# Altium footprint library Capacitor.PcbLib: 107 footprints (part 3 of 7)
Each footprint in its own frame and in the unit in brackets; x right, y up, seen from the top. Pads: shape width x height; smd on the part's side, far side on the other; paste and mask are expansions set on the pad; w line width, h text height; cw(c..) or ccw(c..) is an arc to the next point about the centre after c.
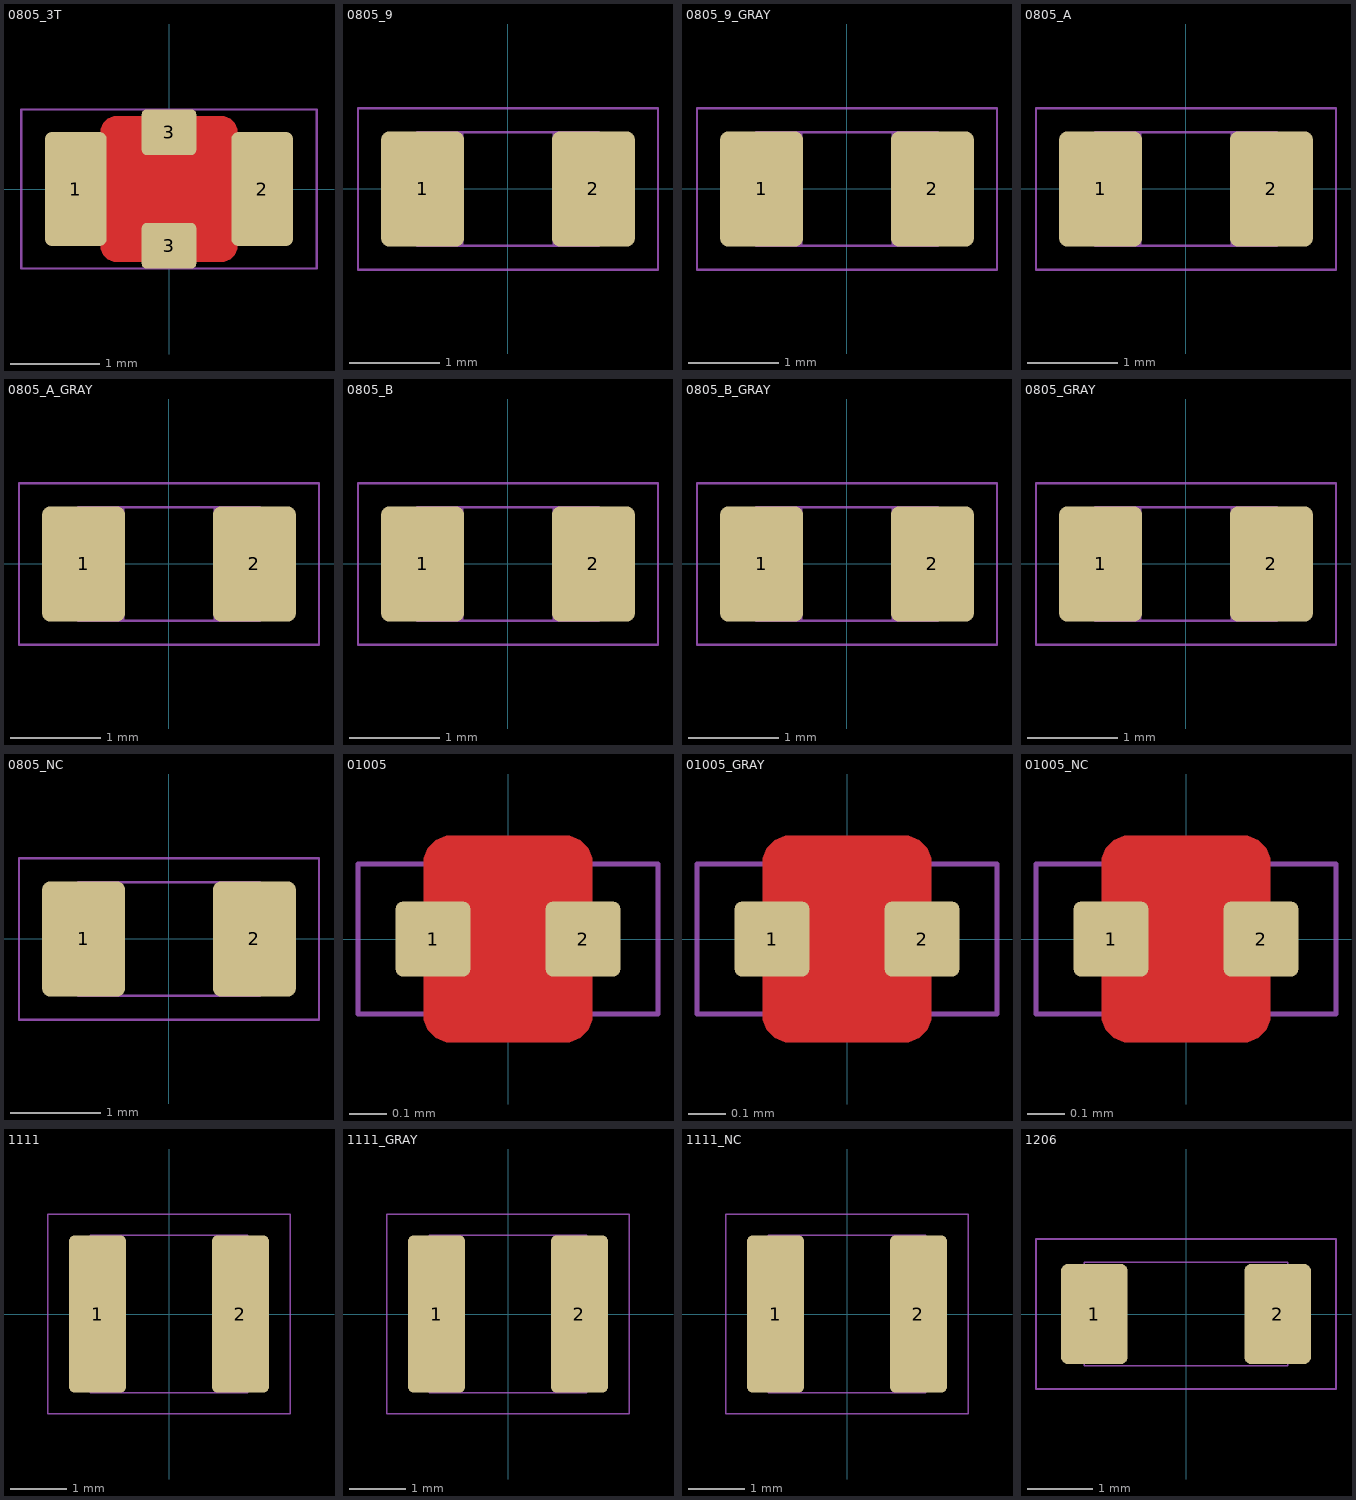
[diagram p2: the footprints below, top view; thin cyan lines are the x and y axes]

## 0805_3T [mil]
pads (4):
  rrect20% 27x50 smd paste-3 mask+2: 1(-41,0) 2(41,0)
  rrect20% 24x20 smd mask+2: 3(0,-25) 3(0,25)
Top Layer:
  pour cut-out: -23,32 -24.39,32 -26.97,30.93 -28.93,28.97 -30,26.39 -30,25 -30,-25 -30,-26.39 -28.93,-28.97 -26.97,-30.93 -24.39,-32 -23,-32 23,-32 24.39,-32 26.97,-30.93 28.93,-28.97 30,-26.39 30,-25 30,25 30,26.39 28.93,28.97 26.97,30.93 24.39,32 23,32
Top Component Outline:
  lines w1: -65,-35 -65,35 65,35 65,-35 -65,-35
Top 3D Body (Mech16):
  lines w1: -27.56,-24.61 -27.56,24.6 ; -12,24.61 ccw(c-1.39,24.61) -1.39,14 1.39,14 ccw(c1.39,24.61) 12,24.61 ; 27.56,-24.6 27.56,24.61 ; -39.37,-24.6 -39.37,24.61 39.37,24.61 39.37,-24.6 -39.37,-24.6
3D body: height 23.62, standoff 0, extent -39.37,-24.61 -27.56,24.6
3D body: height 23, standoff 1, extent -39,-24 39,24
3D body: height 23.62, standoff 0, extent 27.56,-24.6 39.37,24.61
3D body: height 23.62, standoff 0, extent -12,14 12,24.61
3D body: height 23.62, standoff 0, extent -12,-24.61 12,-14

## 0805_9 [mil]
height 33.46
pads (2):
  rrect20% 36x50 smd paste-3 mask+2: 1(-37,0) 2(37,0)
Top Component Outline:
  lines w1: -65,-35 -65,35 65,35 65,-35 -65,-35
Top 3D Body (Mech16):
  lines w1: -19.68,-24.61 -19.68,24.61 ; 19.68,-24.61 19.68,24.61 ; -39.37,-24.61 -39.37,24.61 39.37,24.61 39.37,-24.61 -39.37,-24.61
3D body: height 33.46, standoff 0, extent -39.37,-24.61 -19.68,24.61
3D body: height 33, standoff 1, extent -39,-24 39,24
3D body: height 33.46, standoff 0, extent 19.68,-24.61 39.37,24.61

## 0805_9_GRAY [mil]
height 33.46
pads (2):
  rrect20% 36x50 smd paste-3 mask+2: 1(-37,0) 2(37,0)
Top Component Outline:
  lines w1: -65,-35 65,-35 65,35 -65,35 -65,-35
Top 3D Body (Mech16):
  lines w1: -19.68,-24.61 -19.68,24.61 ; 19.68,-24.61 19.68,24.61 ; -39.37,-24.61 39.37,-24.61 39.37,24.61 -39.37,24.61 -39.37,-24.61
3D body: height 33.46, standoff 0, extent 19.68,-24.61 39.37,24.61
3D body: height 33, standoff 1, extent -39,-24 39,24
3D body: height 33.46, standoff 0, extent -39.37,-24.61 -19.68,24.61

## 0805_A [mil]
height 39.37
pads (2):
  rrect20% 36x50 smd paste-3 mask+2: 1(-37,0) 2(37,0)
Top Component Outline:
  lines w1: -65,-35 -65,35 65,35 65,-35 -65,-35
Top 3D Body (Mech16):
  lines w1: -19.68,-24.61 -19.68,24.61 ; 19.68,-24.61 19.68,24.61 ; -39.37,-24.61 -39.37,24.61 39.37,24.61 39.37,-24.61 -39.37,-24.61
3D body: height 39.37, standoff 0, extent -39.37,-24.61 -19.68,24.61
3D body: height 39, standoff 1, extent -39,-24 39,24
3D body: height 39.37, standoff 0, extent 19.68,-24.61 39.37,24.61

## 0805_A_GRAY [mil]
height 39.37
pads (2):
  rrect20% 36x50 smd paste-3 mask+2: 1(-37,0) 2(37,0)
Top Component Outline:
  lines w1: -65,-35 -65,35 65,35 65,-35 -65,-35
Top 3D Body (Mech16):
  lines w1: -19.68,-24.61 -19.68,24.61 ; 19.68,-24.61 19.68,24.61 ; -39.37,-24.61 -39.37,24.61 39.37,24.61 39.37,-24.61 -39.37,-24.61
3D body: height 39.37, standoff 0, extent -39.37,-24.61 -19.68,24.61
3D body: height 39, standoff 1, extent -39,-24 39,24
3D body: height 39.37, standoff 0, extent 19.68,-24.61 39.37,24.61

## 0805_B [mil]
height 49.21
pads (2):
  rrect20% 36x50 smd paste-3 mask+2: 1(-37,0) 2(37,0)
Top Component Outline:
  lines w1: -65,-35 -65,35 65,35 65,-35 -65,-35
Top 3D Body (Mech16):
  lines w1: -19.68,-24.61 -19.68,24.61 ; 19.68,-24.61 19.68,24.61 ; -39.37,-24.61 -39.37,24.61 39.37,24.61 39.37,-24.61 -39.37,-24.61
3D body: height 49.5, standoff 0, extent -39.37,-24.61 -19.68,24.61
3D body: height 49, standoff 1, extent -39,-24 39,24
3D body: height 49.5, standoff 0, extent 19.68,-24.61 39.37,24.61

## 0805_B_GRAY [mil]
height 49.21
pads (2):
  rrect20% 36x50 smd paste-3 mask+2: 1(-37,0) 2(37,0)
Top Component Outline:
  lines w1: -65,-35 -65,35 65,35 65,-35 -65,-35
Top 3D Body (Mech16):
  lines w1: -19.68,-24.61 -19.68,24.61 ; 19.68,-24.61 19.68,24.61 ; -39.37,-24.61 -39.37,24.61 39.37,24.61 39.37,-24.61 -39.37,-24.61
3D body: height 49.5, standoff 0, extent -39.37,-24.61 -19.68,24.61
3D body: height 49, standoff 1, extent -39,-24 39,24
3D body: height 49.5, standoff 0, extent 19.68,-24.61 39.37,24.61

## 0805_GRAY [mil]
height 23.62
pads (2):
  rrect20% 36x50 smd paste-3 mask+2: 1(-37,0) 2(37,0)
Top Component Outline:
  lines w1: -65,-35 65,-35 65,35 -65,35 -65,-35
Top 3D Body (Mech16):
  lines w1: -19.68,-24.61 -19.68,24.61 ; 19.68,-24.61 19.68,24.61 ; -39.37,-24.61 39.37,-24.61 39.37,24.61 -39.37,24.61 -39.37,-24.61
3D body: height 23.62, standoff 0, extent 19.68,-24.61 39.37,24.61
3D body: height 23, standoff 1, extent -39,-24 39,24
3D body: height 23.62, standoff 0, extent -39.37,-24.61 -19.68,24.61

## 0805_NC [mil]
height 49.21
pads (2):
  rrect20% 36x50 smd paste-3 mask+2: 1(-37,0) 2(37,0)
Top Component Outline:
  lines w1: -65,-35 -65,35 65,35 65,-35 -65,-35
Top 3D Body (Mech16):
  lines w1: -39.37,-24.61 -39.37,24.61 39.37,24.61 39.37,-24.61 -39.37,-24.61
3D body: height 1, standoff 0, extent -39.37,-24.61 39.37,24.61

## 01005 [mil]
height 8
pads (2):
  rrect20% 8x8 smd mask+0.5: 1(-8,0) 2(8,0)
Top Layer:
  pour cut-out: -6,11 -6.6,11 -7.7,10.54 -8.54,9.7 -9,8.6 -9,8 -9,-8 -9,-8.59 -8.54,-9.7 -7.7,-10.54 -6.6,-11 -6,-11 6,-11 6.6,-11 7.7,-10.54 8.54,-9.7 9,-8.59 9,-8 9,8 9,8.6 8.54,9.7 7.7,10.54 6.6,11 6,11
Top Solder:
  rectangle: -6,-8 6,8
Top Component Outline:
  lines w0.5: -16,-8 -16,8 16,8 16,-8 -16,-8
Top 3D Body (Mech16):
  lines w0.3: -8,-4 -8,4 ; -7.8,-3.8 7.8,-3.8 ; -7.8,3.8 7.8,3.8 ; -4.06,-4 -4.06,4 ; 4.06,-4 4.06,4 ; 8,-4 8,4
3D body: height 8, standoff -0.5, extent -8,-4 -4.06,4
3D body: height 7.87, standoff -0.2, extent -7.8,-3.8 7.8,3.8
3D body: height 8, standoff -0.5, extent 4.06,-4 8,4

## 01005_GRAY [mil]
height 8
pads (2):
  rrect20% 8x8 smd mask+0.5: 1(-8,0) 2(8,0)
Top Layer:
  pour cut-out: -6,11 -6.6,11 -7.7,10.54 -8.54,9.7 -9,8.6 -9,8 -9,-8 -9,-8.59 -8.54,-9.7 -7.7,-10.54 -6.6,-11 -6,-11 6,-11 6.6,-11 7.7,-10.54 8.54,-9.7 9,-8.59 9,-8 9,8 9,8.6 8.54,9.7 7.7,10.54 6.6,11 6,11
Top Solder:
  rectangle: -6,-8 6,8
Top Component Outline:
  lines w0.5: -16,-8 -16,8 16,8 16,-8 -16,-8
Top 3D Body (Mech16):
  lines w0.3: -8,-4 -8,4 ; -7.8,-3.8 7.8,-3.8 ; -7.8,3.8 7.8,3.8 ; -4.06,-4 -4.06,4 ; 4.06,-4 4.06,4 ; 8,-4 8,4
3D body: height 8, standoff -0.5, extent -8,-4 -4.06,4
3D body: height 7.87, standoff -0.2, extent -7.8,-3.8 7.8,3.8
3D body: height 8, standoff -0.5, extent 4.06,-4 8,4

## 01005_NC [mil]
height 8
pads (2):
  rrect20% 8x8 smd mask+0.8: 1(-8,0) 2(8,0)
Top Layer:
  pour cut-out: -6,11 -6.6,11 -7.7,10.54 -8.54,9.7 -9,8.6 -9,8 -9,-8 -9,-8.59 -8.54,-9.7 -7.7,-10.54 -6.6,-11 -6,-11 6,-11 6.6,-11 7.7,-10.54 8.54,-9.7 9,-8.59 9,-8 9,8 9,8.6 8.54,9.7 7.7,10.54 6.6,11 6,11
Top Solder:
  rectangle: -6,-8 6,8
Top Component Outline:
  lines w0.5: -16,-8 16,-8 16,8 -16,8 -16,-8
Top 3D Body (Mech16):
  lines w0.3: -8,-4 -8,4 8,4 8,-4 -8,-4
3D body: height 1, standoff 0, extent -8,-4 8,4

## 1111 [mil]
pads (2):
  rrect20% 40x110 smd mask+2: 1(-50,0) 2(50,0)
Top Component Outline:
  lines w1: -85,-70 -85,70 85,70 85,-70 -85,-70
Top 3D Body (Mech16):
  lines w1: -43.31,-55.12 -43.31,55.12 ; 43.31,-55.12 43.31,55.12 ; -55.12,-55.12 -55.12,55.12 55.12,55.12 55.12,-55.12 -55.12,-55.12
3D body: height 41, standoff 0, extent 34.56,-55.56 55.62,55.56
3D body: height 41, standoff 0, extent -55.62,-55.56 -34.56,55.56
3D body: height 40, standoff 1, extent -55.12,-55.12 55.12,55.12

## 1111_GRAY [mil]
pads (2):
  rrect20% 40x110 smd mask+2: 1(-50,0) 2(50,0)
Top Component Outline:
  lines w1: -85,-70 85,-70 85,70 -85,70 -85,-70
Top 3D Body (Mech16):
  lines w1: -43.31,-55.12 -43.31,55.12 ; 43.31,-55.12 43.31,55.12 ; -55.12,-55.12 55.12,-55.12 55.12,55.12 -55.12,55.12 -55.12,-55.12
3D body: height 40, standoff 1, extent -55.12,-55.12 55.12,55.12
3D body: height 41, standoff 0, extent -55.62,-55.56 -34.56,55.56
3D body: height 41, standoff 0, extent 34.56,-55.56 55.62,55.56

## 1111_NC [mil]
pads (2):
  rrect20% 40x110 smd mask+2: 1(-50,0) 2(50,0)
Top Component Outline:
  lines w1: -85,-70 -85,70 85,70 85,-70 -85,-70
Top 3D Body (Mech16):
  lines w1: -43.31,-55.12 -43.31,55.12 ; 43.31,-55.12 43.31,55.12 ; -55.12,-55.12 -55.12,55.12 55.12,55.12 55.12,-55.12 -55.12,-55.12
3D body: height 41, standoff 0, extent 34.56,-55.56 55.62,55.56
3D body: height 41, standoff 0, extent -55.62,-55.56 -34.56,55.56
3D body: height 40, standoff 1, extent -55.12,-55.12 55.12,55.12

## 1206 [mil]
height 33.46
pads (2):
  rrect20% 40x60 smd mask+2: 1(-55,0) 2(55,0)
Top Component Outline:
  lines w1: -90,-45 90,-45 90,45 -90,45 -90,-45
Top 3D Body (Mech16):
  lines w1: -61,-31 61,-31 61,31 -61,31 -61,-31
3D body: height 33.46, standoff 0, extent -61,-31 -35,31
3D body: height 33, standoff 1, extent -60,-30 60,30
3D body: height 33.46, standoff 0, extent 35,-31 61,31